# EAGLE library part USBMICRO-U254-051T-4BH83-F1S (library yb-library)
USB - Micro B Female USB 2 5 SMD USB Connectors RoHS Check availability <https://pricing.snapeda.com/parts/U254-051T-4BH83-F1S/XKB%20Industrial%20Precision/view-part?ref=eda>
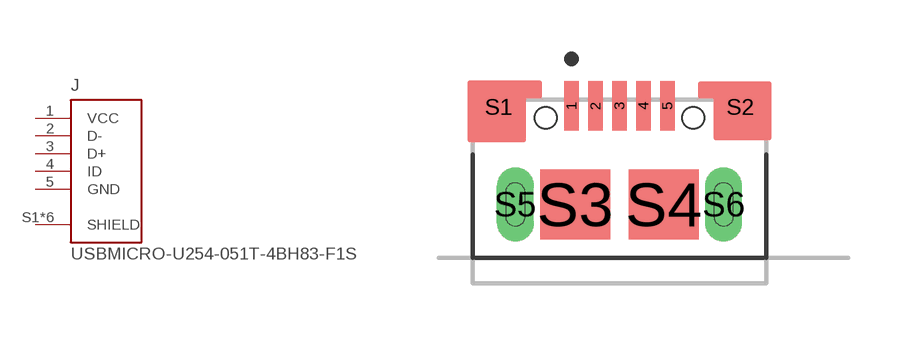
[diagram p25: symbol with the pads of USBMICRO-XKB_U254-051T-4BH83-F1S; footprint USBMICRO-XKB_U254-051T-4BH83-F1S]

Designator prefix J

## USBMICRO-U254-051T-4BH83-F1S (AVAILABILITY: Not in stock; DESCRIPTION: USB - Micro B Female USB 2 5 SMD USB Connectors RoHS; MF: XKB Industrial Precision; MP: U254-051T-4BH83-F1S; PACKAGE: Package; PRICE: None)  [USBMICRO-XKB_U254-051T-4BH83-F1S]
1  VCC  pwr
2  D-
3  D+
4  ID
5  GND  pwr
S1  SHIELD  pas
S2  SHIELD  pas
S3  SHIELD  pas
S4  SHIELD  pas
S5  SHIELD  pas
S6  SHIELD  pas

## Footprint USBMICRO-XKB_U254-051T-4BH83-F1S (pad centres in mm)
smd 0.4 x 1.35: 1 -1.3,2.675; 2 -0.65,2.675; 3 0,2.675; 4 0.65,2.675; 5 1.3,2.675
smd 1.27 x 0.635: S1 -3.277,2.642; S2 3.277,2.642
smd 1.9 x 1.9: S3 -1.2,0; S4 1.2,0
drill 0.5 pad 0.85 long: S5 -2.825,0; S6 2.825,0
hole 0.6 at -2,2.35
hole 0.6 at 2,2.35